# EAGLE library part Q_ATMEGA2560 (library MRDT-2014-All)
Mega Pro 5V Board
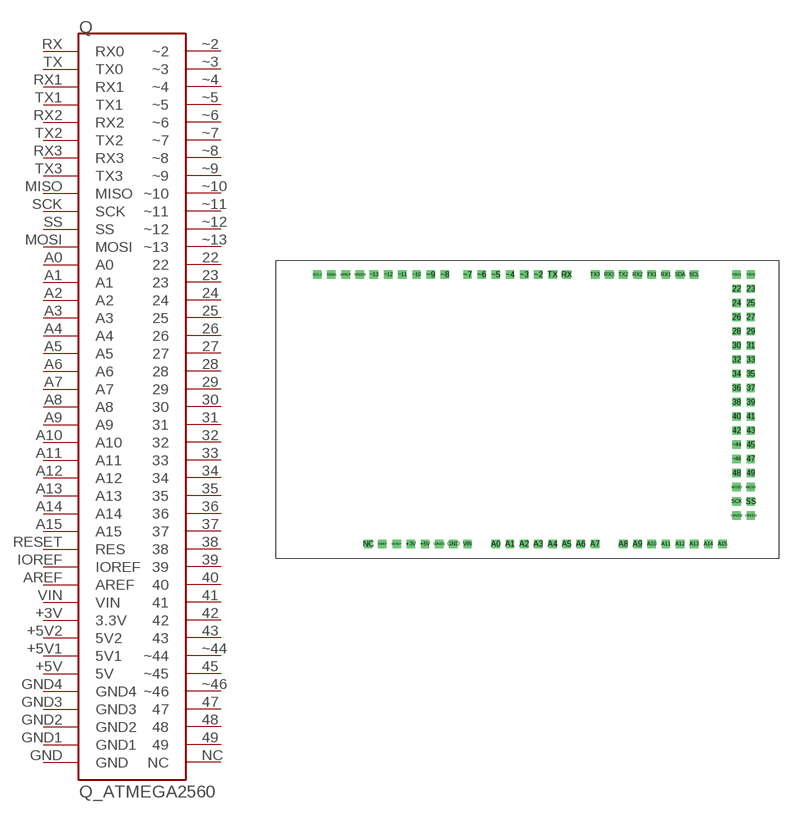
[diagram p22: symbol with the pads of ARDUINO_MEGA; footprint ARDUINO_MEGA]

Designator prefix Q

## Q_ATMEGA2560  [ARDUINO_MEGA]
22  22
23  23
24  24
25  25
26  26
27  27
28  28
29  29
30  30
31  31
32  32
33  33
34  34
35  35
36  36
37  37
38  38
39  39
40  40
41  41
42  42
43  43
45  ~45
47  47
48  48
49  49
+3V  3.3V
+5V  5V
+5V1  5V1
+5V2  5V2
A0  A0
A1  A1
A2  A2
A3  A3
A4  A4
A5  A5
A6  A6
A7  A7
A8  A8
A9  A9
A10  A10
A11  A11
A12  A12
A13  A13
A14  A14
A15  A15
AREF  AREF
GND  GND
GND1  GND1
GND2  GND2
GND3  GND3
GND4  GND4
IOREF  IOREF
MISO  MISO
MOSI  MOSI
NC  NC
RESET  RES
RX  RX0
RX1  RX1
RX2  RX2
RX3  RX3
SCK  SCK
SS  SS
TX  TX0
TX1  TX1
TX2  TX2
TX3  TX3
VIN  VIN
~2  ~2
~3  ~3
~4  ~4
~5  ~5
~6  ~6
~7  ~7
~8  ~8
~9  ~9
~10  ~10
~11  ~11
~12  ~12
~13  ~13
~44  ~44
~46  ~46

## Footprint ARDUINO_MEGA (pad centres in mm)
drill 1 square: 22 82.55,48.26; 23 85.09,48.26; 24 82.55,45.72; 25 85.09,45.72; 26 82.55,43.18; 27 85.09,43.18; 28 82.55,40.64; 29 85.09,40.64; 30 82.55,38.1; 31 85.09,38.1; 32 82.55,35.56; 33 85.09,35.56; 34 82.55,33.02; 35 85.09,33.02; 36 82.55,30.48; 37 85.09,30.48; 38 82.55,27.94; 39 85.09,27.94; 40 82.55,25.4; 41 85.09,25.4; 42 82.55,22.86; 43 85.09,22.86; 45 85.09,20.32; 47 85.09,17.78; 48 82.55,15.24; 49 85.09,15.24; +3V 24.13,2.54; +5V 26.67,2.54; +5V1 82.55,50.8; +5V2 85.09,50.8; A0 39.37,2.54; A1 41.91,2.54; A2 44.45,2.54; A3 46.99,2.54; A4 49.53,2.54; A5 52.07,2.54; A6 54.61,2.54; A7 57.15,2.54; A8 62.23,2.54; A9 64.77,2.54; A10 67.31,2.54; A11 69.85,2.54; A12 72.39,2.54; A13 74.93,2.54; A14 77.47,2.54; A15 80.01,2.54; AREF 12.446,50.8; GND 31.75,2.54; GND1 29.21,2.54; GND2 82.55,7.62; GND3 85.09,7.62; GND4 14.986,50.8; IOREF 19.05,2.54; MISO 82.55,12.7; MOSI 85.09,12.7; NC 16.51,2.54; RESET 21.59,2.54; RX 52.07,50.8; RX1 69.85,50.8; RX2 64.77,50.8; RX3 59.69,50.8; SCK 82.55,10.16; SCL 74.93,50.8; SCL1 7.366,50.8; SDA 72.39,50.8; SDA1 9.906,50.8; SS 85.09,10.16; TX 49.53,50.8; TX1 67.31,50.8; TX2 62.23,50.8; TX3 57.15,50.8; VIN 34.29,2.54; ~2 46.99,50.8; ~3 44.45,50.8; ~4 41.91,50.8; ~5 39.37,50.8; ~6 36.83,50.8; ~7 34.29,50.8; ~8 30.226,50.8; ~9 27.686,50.8; ~10 25.146,50.8; ~11 22.606,50.8; ~12 20.066,50.8; ~13 17.526,50.8; ~44 82.55,20.32; ~46 82.55,17.78